# EAGLE library part LT3492 (library custom)
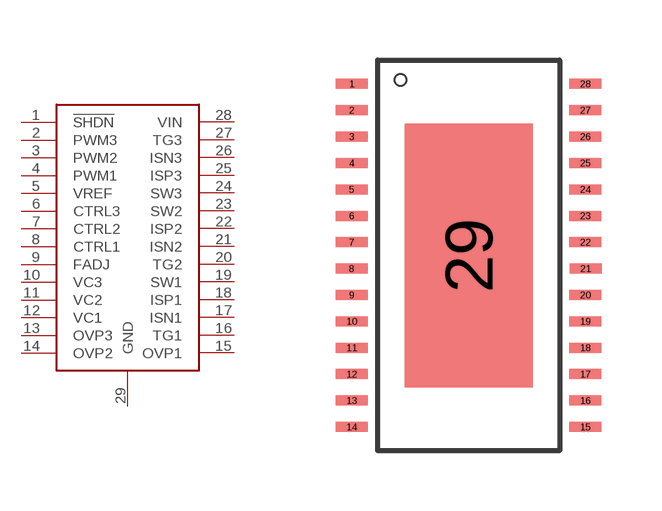
[diagram p5: symbol with the pads of TSSOP28-GROUNDPAD; footprint TSSOP28-GROUNDPAD]

Designator prefix -

## LT3492TSSOP-HT  [TSSOP28-GROUNDPAD]
1  !SHDN
2  PWM3
3  PWM2
4  PWM1
5  VREF
6  CTRL3
7  CTRL2
8  CTRL1
9  FADJ
10  VC3
11  VC2
12  VC1
13  OVP3
14  OVP2
15  OVP1
16  TG1
17  ISN1
18  ISP1
19  SW1
20  TG2
21  ISN2
22  ISP2
23  SW2
24  SW3
25  ISP3
26  ISN3
27  TG3
28  VIN
29  GND

## Footprint TSSOP28-GROUNDPAD (pad centres in mm)
smd 0.8 x 0.25: 1 -2.921,4.298; 2 -2.921,3.637; 3 -2.921,2.977; 4 -2.921,2.317; 5 -2.921,1.656; 6 -2.921,0.996; 7 -2.921,0.335; 8 -2.927,-0.325; 9 -2.921,-0.985; 10 -2.921,-1.646; 11 -2.921,-2.306; 12 -2.921,-2.967; 13 -2.921,-3.627; 14 -2.921,-4.287; 15 2.921,-4.287; 16 2.921,-3.627; 17 2.921,-2.967; 18 2.921,-2.306; 19 2.921,-1.646; 20 2.921,-0.985; 21 2.927,-0.325; 22 2.921,0.335; 23 2.921,0.996; 24 2.921,1.656; 25 2.921,2.317; 26 2.921,2.977; 27 2.921,3.637; 28 2.921,4.298
smd 3.2 x 6.6: 29 0,0.005